# Altium schematic symbol library EEEFTE221XAL.SchLib: 1 symbol
Pins are listed as number, name and electrical type; pins without a type are passive.

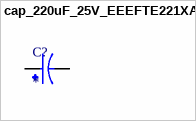
[diagram p0: symbol cap_220uF_25V_EEEFTE221XAL]

## cap_220uF_25V_EEEFTE221XAL
designator C?
CAP ALUM 220UF 20% 25V SMD; MF: Panasonic; MP: EEEFTE221XAL; SnapEDA_Link: https://www.snapeda.com/parts/EEEFTE221XAL/Panasonic/view-part/?ref=snap; Package: RADIAL-2 Panasonic; Value: *; Check_prices: https://www.snapeda.com/parts/EEEFTE221XAL/Panasonic/view-part/?ref=eda
footprint CAP_EEEFTE221XAL
pins: 1, 2